# Altium footprint library PA_Test_Kartı_v2.PcbLib: 22 footprints (part 1 of 2)
Each footprint in its own frame and in the unit in brackets; x right, y up, seen from the top. Pads: shape width x height; smd on the part's side, far side on the other; paste and mask are expansions set on the pad; w line width, h text height; cw(c..) or ccw(c..) is an arc to the next point about the centre after c.
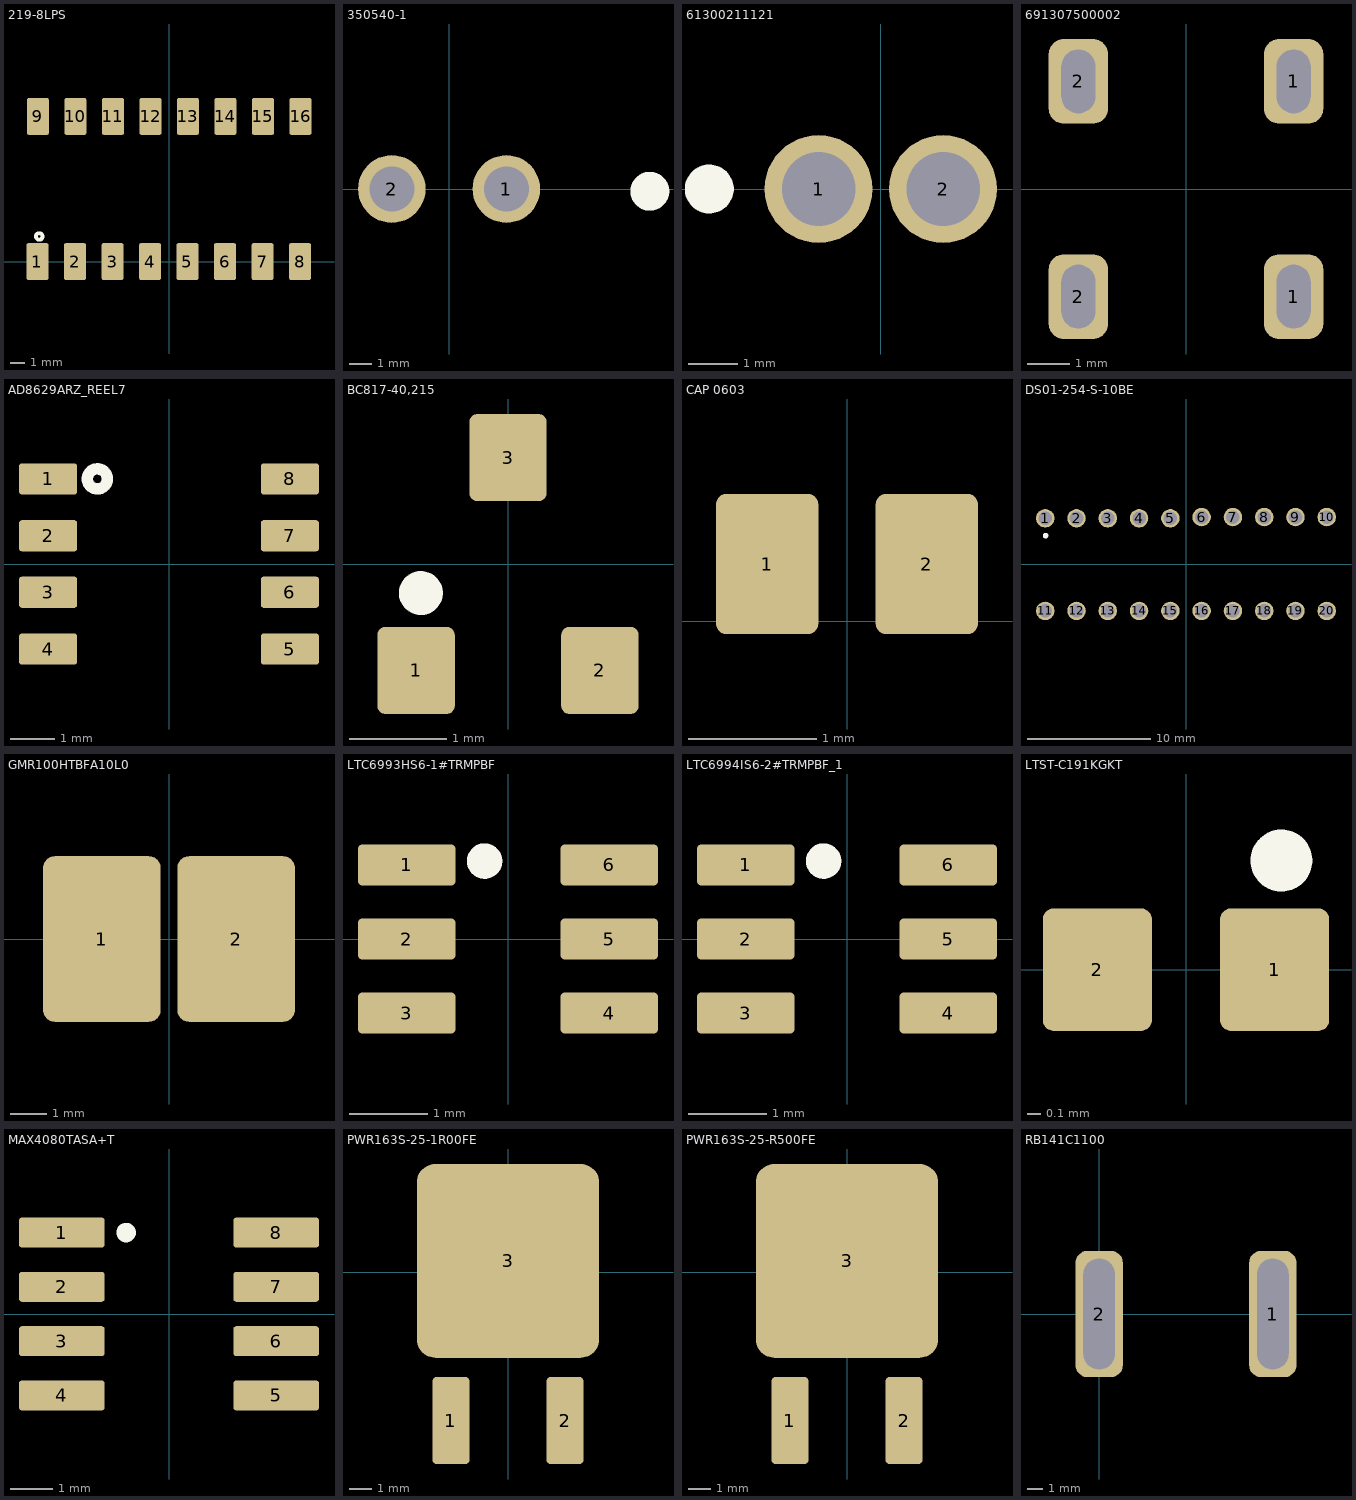
[diagram p0: the footprints below, top view; thin cyan lines are the x and y axes]

## 219-8LPS [mm]
pads (16):
  rrect20% 1.5x2.5 smd mask+0.05: 1(-8.919,0) 2(-6.379,0) 3(-3.839,0) 4(-1.299,0) 5(1.231,0) 6(3.771,0) 7(6.311,0) 8(8.851,0) 9(-8.89,9.82) 10(-6.35,9.82) 11(-3.81,9.82) 12(-1.27,9.82) 13(1.26,9.82) 14(3.8,9.82) 15(6.34,9.82) 16(8.88,9.82)
Top Overlay:
  circle w0.254: c-8.8,1.7 r0.224
3D body "219-8LP.STEP": height 4.03, standoff -0.02, extent -10.87,0 10.87,9.906

## 350540-1 [mm]
pads (2):
  round 3 hole 2 mask+0.05: 1(2.54,0) 2(-2.54,0)
Top Overlay:
  circle w1: c8.9,-0.1 r0.361
3D body "c-350540-1-r-3d.stp": height 10, standoff -5.24, extent -7.62,-5.461 7.62,5.461

## 61300211121 [mm]
pads (2):
  round 2.2 hole 1.5 mask+0.05: 1(-1.27,0) 2(1.27,0)
Top Overlay:
  circle w0.5: c-3.5,0 r0.25
3D body "Download_STP_61300211121+(rev1).stp": height 8.77, standoff -2.77, extent -2.54,-1.27 2.54,1.27

## 691307500002 [mm]
pads (4):
  rrect50% 1.4x2 hole 0.8 slot 1.5 at 90 deg mask+0.05: 1(2.54,-2.54) 1(2.54,2.54) 2(-2.54,-2.54) 2(-2.54,2.54)
3D body "Download_STP_691307500002+%28rev1%29.stp": height 19.15, standoff -3.35, extent -6.04,-3.95 6.04,6.849

## AD8629ARZ_REEL7 [mm]
pads (8):
  rrect20% 1.3x0.7 smd mask+0.05: 1(-2.7,1.9) 2(-2.7,0.63) 3(-2.7,-0.63) 4(-2.7,-1.9) 5(2.7,-1.9) 6(2.7,-0.63) 7(2.7,0.63) 8(2.7,1.9)
Top Overlay:
  circle w0.254: c-1.6,1.9 r0.224
3D body "AD8629ARZ-REEL7.stp": height 1.75, standoff 0, extent -3,-2.45 3,2.45

## BC817-40,215 [mm]
pads (3):
  rrect20% 0.8x0.9 smd mask+0.05: 1(-0.95,-1.1) 2(0.95,-1.1) 3(0,1.1)
Top Overlay:
  circle w0.254: c-0.9,-0.3 r0.1
3D body "SOT23_NEX.step": height 1.09, standoff 0, extent -1.499,-1.25 1.499,1.25

## CAP 0603 [mm]
pads (2):
  rrect20% 0.8x1.1 smd mask+0.05: 1(-0.625,0.45) 2(0.625,0.45)
3D body "CC0603KPX7R9BB104.step": height 0.8, standoff 0, extent -0.8,0 0.8,0.9

## DS01-254-S-10BE [mm]
pads (20):
  round 1.5 hole 1.1 mask+0.05: 1(-11.43,3.71) 2(-8.89,3.71) 3(-6.35,3.71) 4(-3.81,3.71) 5(-1.27,3.71) 6(1.27,3.81) 7(3.81,3.81) 8(6.35,3.81) 9(8.89,3.81) 10(11.43,3.81) 11(-11.43,-3.81) 12(-8.89,-3.81) 13(-6.35,-3.81) 14(-3.81,-3.81) 15(-1.27,-3.81) 16(1.27,-3.81) 17(3.81,-3.81) 18(6.35,-3.81) 19(8.89,-3.81) 20(11.43,-3.81)
Top Overlay:
  circle w0.254: c-11.4,2.3 r0.1
3D body "DS01-254-S-10BE.stp": height 7.18, standoff -2.37, extent -13.295,-4.95 13.525,4.95

## GMR100HTBFA10L0 [mm]
pads (2):
  rrect20% 3.2x4.5 smd mask+0.05: 1(-1.825,0) 2(1.825,0)
3D body "RES_GMR100H_ROM.step": height 0.56, standoff 0, extent -3.327,-1.727 3.327,1.727

## LTC6993HS6-1#TRMPBF [mm]
pads (6):
  rrect20% 1.25x0.525 smd mask+0.05: 1(-1.3,0.95) 2(-1.3,0) 3(-1.3,-0.95) 4(1.3,-0.95) 5(1.3,0) 6(1.3,0.95)
Top Overlay:
  circle w0.254: c-0.3,1 r0.1
3D body "LTC6993HS6-1_TRMPBF.step": height 1, standoff 0, extent -1.4,-1.45 1.4,1.45

## LTC6994IS6-2#TRMPBF_1 [mm]
pads (6):
  rrect20% 1.25x0.525 smd mask+0.05: 1(-1.3,0.95) 2(-1.3,0) 3(-1.3,-0.95) 4(1.3,-0.95) 5(1.3,0) 6(1.3,0.95)
Top Overlay:
  circle w0.254: c-0.3,1 r0.1
3D body "TSOT-23_S6_LIT.step": height 0.99, standoff 0, extent -1.397,-1.448 1.397,1.448

## LTST-C191KGKT [mm] "LED GREEN CLEAR SMD"
pads (2):
  rrect20% 0.8x0.9 smd mask+0.05: 1(0.65,0) 2(-0.65,0)
Top Overlay:
  circle w0.254: c0.7,0.8 r0.1
3D body "LED_LTST-C191KGKT_LTO.step": height 0.56, standoff 0, extent -0.8,-0.406 0.8,0.406

## MAX4080TASA+T [mm]
pads (8):
  rrect20% 2x0.7 smd mask+0.05: 1(-2.5,1.9) 2(-2.5,0.635) 3(-2.5,-0.635) 4(-2.5,-1.9) 5(2.5,-1.9) 6(2.5,-0.635) 7(2.5,0.635) 8(2.5,1.9)
Top Overlay:
  circle w0.254: c-1,1.9 r0.1
3D body "MAX4080TASA_T.step": height 1.75, standoff 0, extent -3,-2.45 3,2.45

## PWR163S-25-1R00FE [mm]
pads (3):
  rrect20% 1.62x3.81 smd mask+0.05: 1(-2.5,-6.5) 2(2.5,-6.5)
  rrect20% 8x8.5 smd mask+0.05: 3(0,0.5)
3D body "pwr163.stp": height 2.79, standoff 0, extent -4.065,-7.65 4.065,4.6

## PWR163S-25-R500FE [mm]
pads (3):
  rrect20% 1.62x3.81 smd mask+0.05: 1(-2.5,-6.5) 2(2.5,-6.5)
  rrect20% 8x8.5 smd mask+0.05: 3(0,0.5)
3D body "pwr163.stp": height 2.79, standoff 0, extent -4.065,-7.65 4.065,4.6

## RB141C1100 [mm]
pads (2):
  rrect50% 3x8 hole 2 slot 7 at 90 deg mask+0.05: 1(11,0) 2(0,0)
3D body "RB141Cxx00.stp": height 27.57, standoff -7, extent -16.35,-7 16.35,7